# Altium schematic symbol library display-lcd.SCHLIB: 16 symbols
Pins are listed as number, name and electrical type; pins without a type are passive.

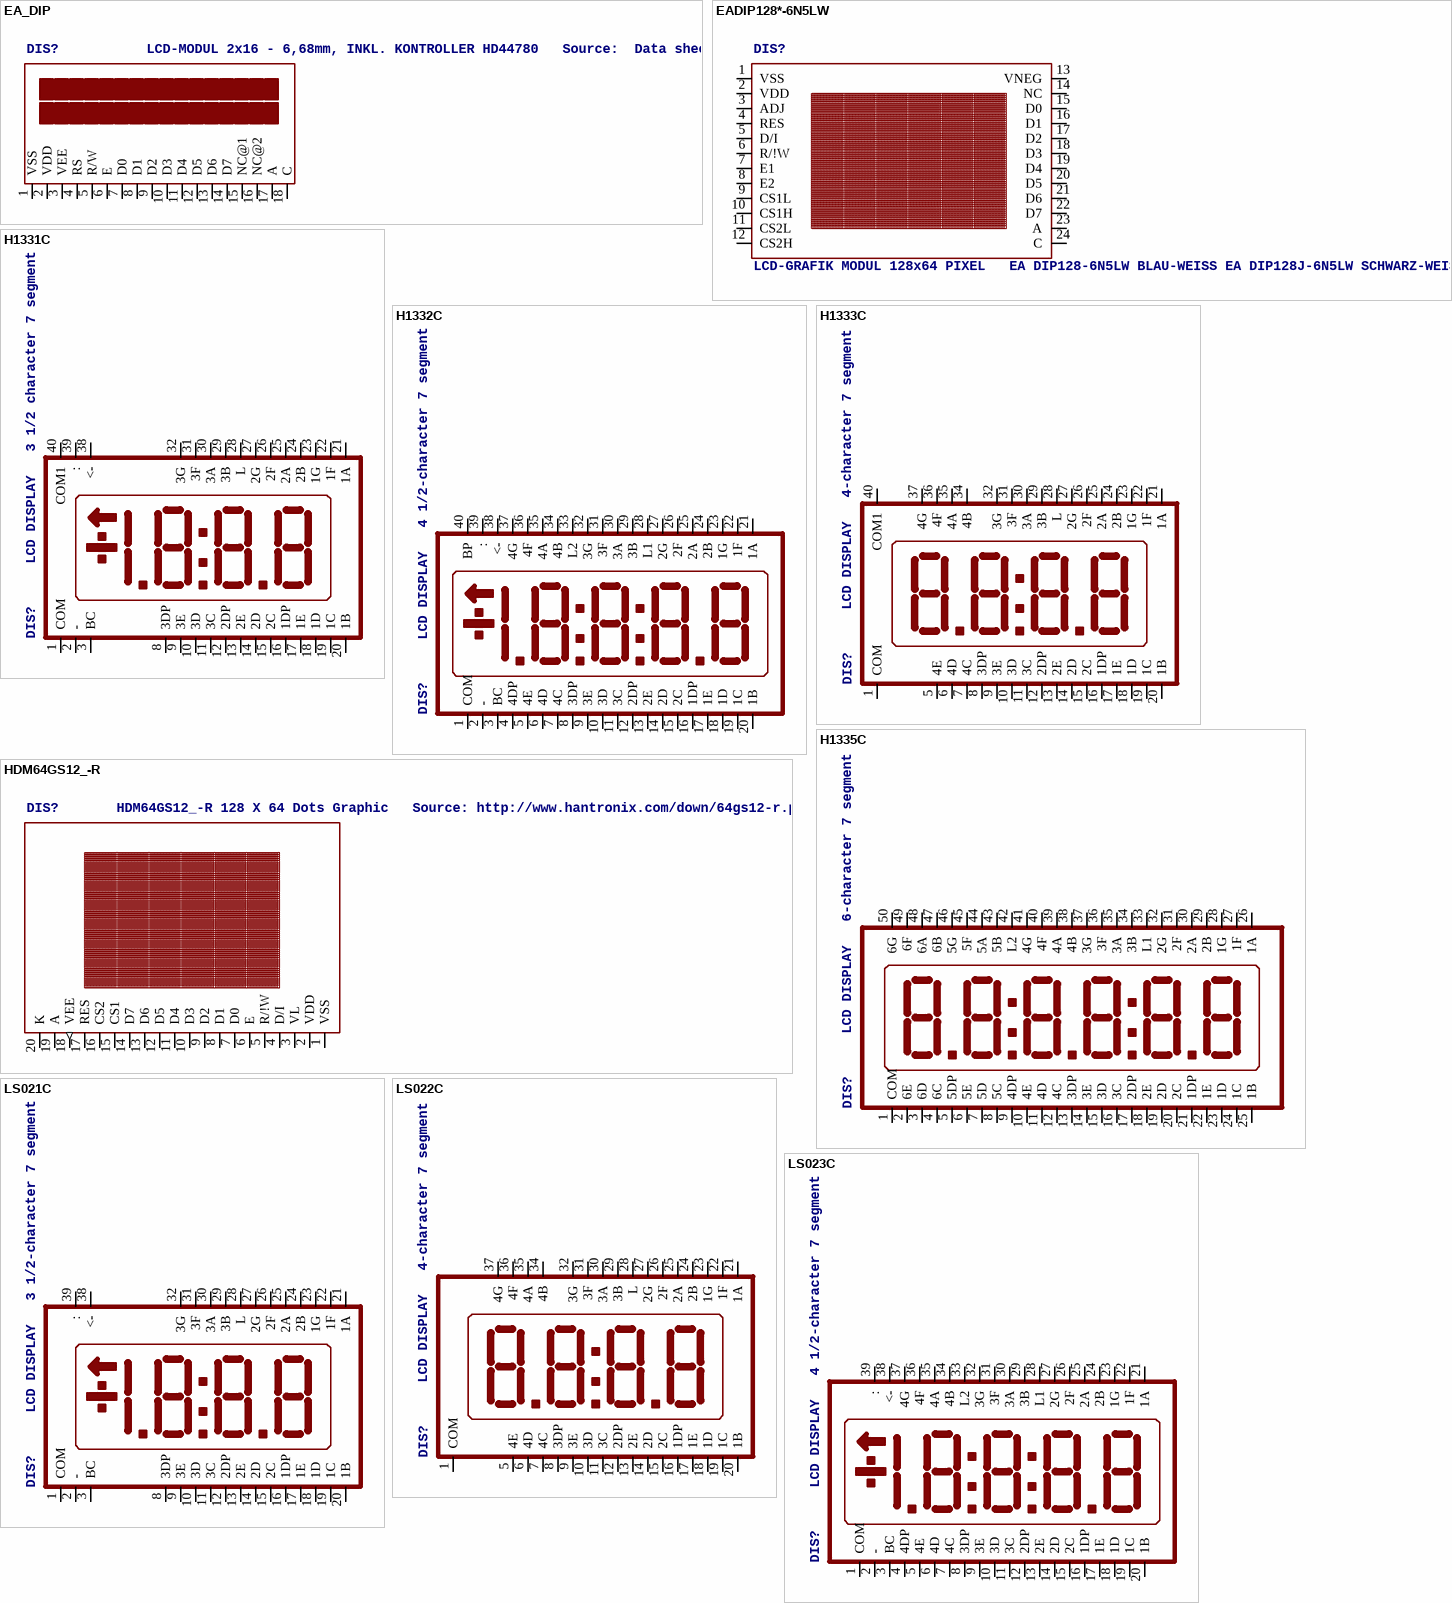
[diagram p0: symbols EA_DIP to LS023C]

## EA_DIP
designator DIS?, comment LCD-MODUL 2x16 - 6,68mm, INKL. KONTROLLER HD44780   Source:  Data sheet
footprint EA_DIP
pins: 1 VSS (power), 2 VDD (power), 3 VEE (power), 4 RS, 5 R/W, 6 E, 7 D0, 8 D1, 9 D2, 10 D3, 11 D4, 12 D5, 13 D6, 14 D7, 15 NC@1, 16 NC@2, 17 A, 18 C

## EADIP128*-6N5LW
designator DIS?, comment LCD-GRAFIK MODUL 128x64 PIXEL   EA DIP128-6N5LW BLAU-WEISS EA DIP128J-6N5LW SCHWARZ-WEISS  ELECTRONIC ASSEMBLY GMBH LOCHHAMER SCHLAG 17 D-82166 GRÄFELFING Source: www.lcd-module.de .. dip128-6.pdf
OC_FARNELL: unknown; OC_NEWARK: unknown
footprint LCD-DIP128-64
pins: 1 VSS (power), 2 VDD (power), 3 ADJ, 4 RES, 5 D/I, 6 R/!W, 7 E1, 8 E2, 9 CS1L, 10 CS1H, 11 CS2L, 12 CS2H, 13 VNEG, 14 NC, 15 D0, 16 D1, 17 D2, 18 D3, 19 D4, 20 D5, 21 D6, 22 D7, 23 A, 24 C

## H1331C
designator DIS?, comment LCD DISPLAY   3 1/2 character 7 segment
OC_FARNELL: unknown; OC_NEWARK: unknown
footprint H1331C
pins: 1 COM, 2 -, 3 BC, 8 3DP, 9 3E, 10 3D, 11 3C, 12 2DP, 13 2E, 14 2D, 15 2C, 16 1DP, 17 1E, 18 1D, 19 1C, 20 1B, 21 1A, 22 1F, 23 1G, 24 2B, 25 2A, 26 2F, 27 2G, 28 L, 29 3B, 30 3A, 31 3F, 32 3G, 38 <-, 39 :, 40 COM1

## H1332C
designator DIS?, comment LCD DISPLAY   4 1/2-character 7 segment
OC_FARNELL: unknown; OC_NEWARK: unknown
footprint H1332C
pins: 1 COM, 2 -, 3 BC, 4 4DP, 5 4E, 6 4D, 7 4C, 8 3DP, 9 3E, 10 3D, 11 3C, 12 2DP, 13 2E, 14 2D, 15 2C, 16 1DP, 17 1E, 18 1D, 19 1C, 20 1B, 21 1A, 22 1F, 23 1G, 24 2B, 25 2A, 26 2F, 27 2G, 28 L1, 29 3B, 30 3A, 31 3F, 32 3G, 33 L2, 34 4B, 35 4A, 36 4F, 37 4G, 38 <-, 39 :, 40 BP

## H1333C
designator DIS?, comment LCD DISPLAY   4-character 7 segment
OC_FARNELL: unknown; OC_NEWARK: unknown
footprint H1333C
pins: 1 COM, 5 4E, 6 4D, 7 4C, 8 3DP, 9 3E, 10 3D, 11 3C, 12 2DP, 13 2E, 14 2D, 15 2C, 16 1DP, 17 1E, 18 1D, 19 1C, 20 1B, 21 1A, 22 1F, 23 1G, 24 2B, 25 2A, 26 2F, 27 2G, 28 L, 29 3B, 30 3A, 31 3F, 32 3G, 34 4B, 35 4A, 36 4F, 37 4G, 40 COM1

## H1335C
designator DIS?, comment LCD DISPLAY   6-character 7 segment
OC_FARNELL: unknown; OC_NEWARK: unknown
footprint H1335C
pins: 1 COM, 2 6E, 3 6D, 4 6C, 5 5DP, 6 5E, 7 5D, 8 5C, 9 4DP, 10 4E, 11 4D, 12 4C, 13 3DP, 14 3E, 15 3D, 16 3C, 17 2DP, 18 2E, 19 2D, 20 2C, 21 1DP, 22 1E, 23 1D, 24 1C, 25 1B, 26 1A, 27 1F, 28 1G, 29 2B, 30 2A, 31 2F, 32 2G, 33 L1, 34 3B, 35 3A, 36 3F, 37 3G, 38 4B, 39 4A, 40 4F, 41 4G, 42 L2, 43 5B, 44 5A, 45 5F, 46 5G, 47 6B, 48 6A, 49 6F, 50 6G

## HDM64GS12_-R
designator DIS?, comment HDM64GS12_-R 128 X 64 Dots Graphic   Source: http://www.hantronix.com/down/64gs12-r.pdf
OC_FARNELL: unknown; OC_NEWARK: unknown
footprint HDM64GS12_-R
pins: 1 VSS (power), 2 VDD (power), 3 VL, 4 D/I, 5 R/!W, 6 E, 7 D0, 8 D1, 9 D2, 10 D3, 11 D4, 12 D5, 13 D6, 14 D7, 15 CS1, 16 CS2, 17 RES, 18 VEE (out), 19 A, 20 K

## LS021C
designator DIS?, comment LCD DISPLAY   3 1/2-character 7 segment
OC_FARNELL: unknown; OC_NEWARK: unknown
footprint LS021C
pins: 1 COM, 2 -, 3 BC, 8 3DP, 9 3E, 10 3D, 11 3C, 12 2DP, 13 2E, 14 2D, 15 2C, 16 1DP, 17 1E, 18 1D, 19 1C, 20 1B, 21 1A, 22 1F, 23 1G, 24 2B, 25 2A, 26 2F, 27 2G, 28 L, 29 3B, 30 3A, 31 3F, 32 3G, 38 <-, 39 :

## LS022C
designator DIS?, comment LCD DISPLAY   4-character 7 segment
OC_FARNELL: unknown; OC_NEWARK: unknown
footprint LS022C
pins: 1 COM, 5 4E, 6 4D, 7 4C, 8 3DP, 9 3E, 10 3D, 11 3C, 12 2DP, 13 2E, 14 2D, 15 2C, 16 1DP, 17 1E, 18 1D, 19 1C, 20 1B, 21 1A, 22 1F, 23 1G, 24 2B, 25 2A, 26 2F, 27 2G, 28 L, 29 3B, 30 3A, 31 3F, 32 3G, 34 4B, 35 4A, 36 4F, 37 4G

## LS023C
designator DIS?, comment LCD DISPLAY   4 1/2-character 7 segment
OC_FARNELL: unknown; OC_NEWARK: unknown
footprint LS023C
pins: 1 COM, 2 -, 3 BC, 4 4DP, 5 4E, 6 4D, 7 4C, 8 3DP, 9 3E, 10 3D, 11 3C, 12 2DP, 13 2E, 14 2D, 15 2C, 16 1DP, 17 1E, 18 1D, 19 1C, 20 1B, 21 1A, 22 1F, 23 1G, 24 2B, 25 2A, 26 2F, 27 2G, 28 L1, 29 3B, 30 3A, 31 3F, 32 3G, 33 L2, 34 4B, 35 4A, 36 4F, 37 4G, 38 <-, 39 :

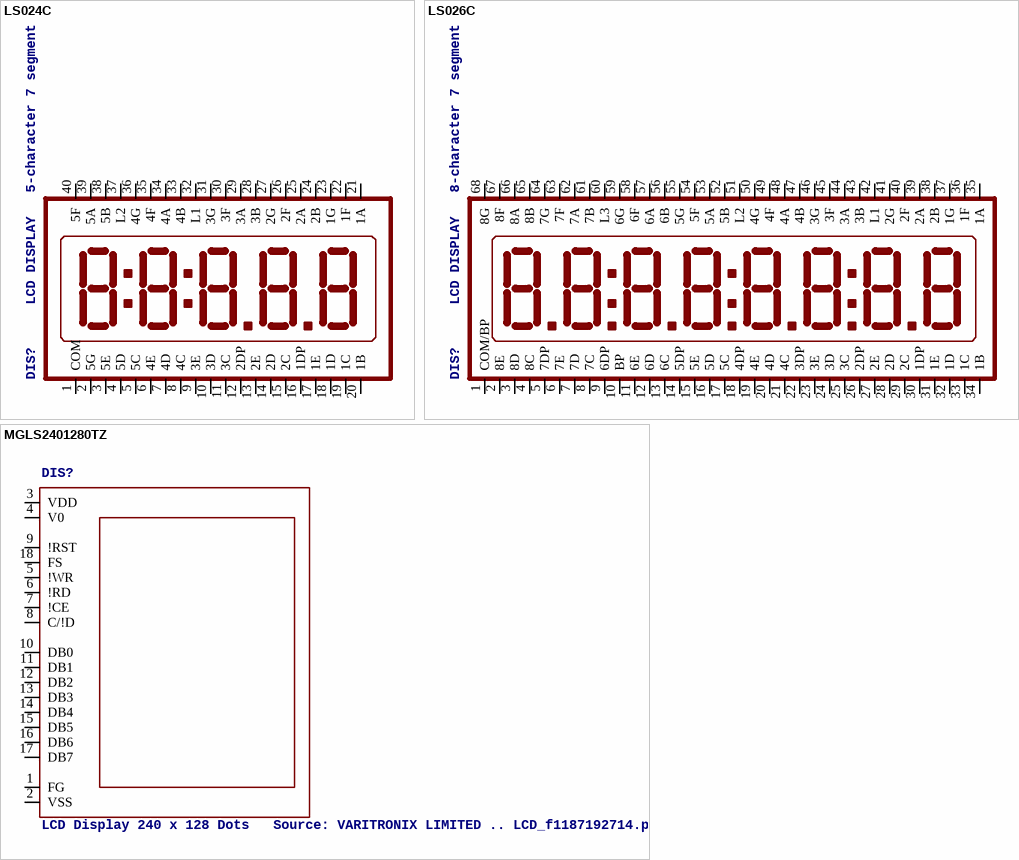
[diagram p1: symbols LS024C to MGLS2401280TZ]

## LS024C
designator DIS?, comment LCD DISPLAY   5-character 7 segment
OC_FARNELL: unknown; OC_NEWARK: unknown
footprint LS024C
pins: 1 COM, 2 5G, 3 5E, 4 5D, 5 5C, 6 4E, 7 4D, 8 4C, 9 3E, 10 3D, 11 3C, 12 2DP, 13 2E, 14 2D, 15 2C, 16 1DP, 17 1E, 18 1D, 19 1C, 20 1B, 21 1A, 22 1F, 23 1G, 24 2B, 25 2A, 26 2F, 27 2G, 28 3B, 29 3A, 30 3F, 31 3G, 32 L1, 33 4B, 34 4A, 35 4F, 36 4G, 37 L2, 38 5B, 39 5A, 40 5F

## LS026C
designator DIS?, comment LCD DISPLAY   8-character 7 segment
OC_FARNELL: unknown; OC_NEWARK: unknown
footprint LS026C
pins: 1 COM/BP, 2 8E, 3 8D, 4 8C, 5 7DP, 6 7E, 7 7D, 8 7C, 9 6DP, 10 BP, 11 6E, 12 6D, 13 6C, 14 5DP, 15 5E, 16 5D, 17 5C, 18 4DP, 19 4E, 20 4D, 21 4C, 22 3DP, 23 3E, 24 3D, 25 3C, 26 2DP, 27 2E, 28 2D, 29 2C, 30 1DP, 31 1E, 32 1D, 33 1C, 34 1B, 35 1A, 36 1F, 37 1G, 38 2B, 39 2A, 40 2F, 41 2G, 42 L1, 43 3B, 44 3A, 45 3F, 46 3G, 47 4B, 48 4A, 49 4F, 50 4G, 51 L2, 52 5B, 53 5A, 54 5F, 55 5G, 56 6B, 57 6A, 58 6F, 59 6G, 60 L3, 61 7B, 62 7A, 63 7F, 64 7G, 65 8B, 66 8A, 67 8F, 68 8G

## MGLS2401280TZ
designator DIS?, comment LCD Display 240 x 128 Dots   Source: VARITRONIX LIMITED .. LCD_f1187192714.pdf
OC_FARNELL: 1183196; OC_NEWARK: unknown
footprint MGLS2401280TZ
pins: 1 FG, 2 VSS, 3 VDD, 4 V0, 5 !WR, 6 !RD, 7 !CE, 8 C/!D, 9 !RST, 10 DB0, 11 DB1, 12 DB2, 13 DB3, 14 DB4, 15 DB5, 16 DB6, 17 DB7, 18 FS

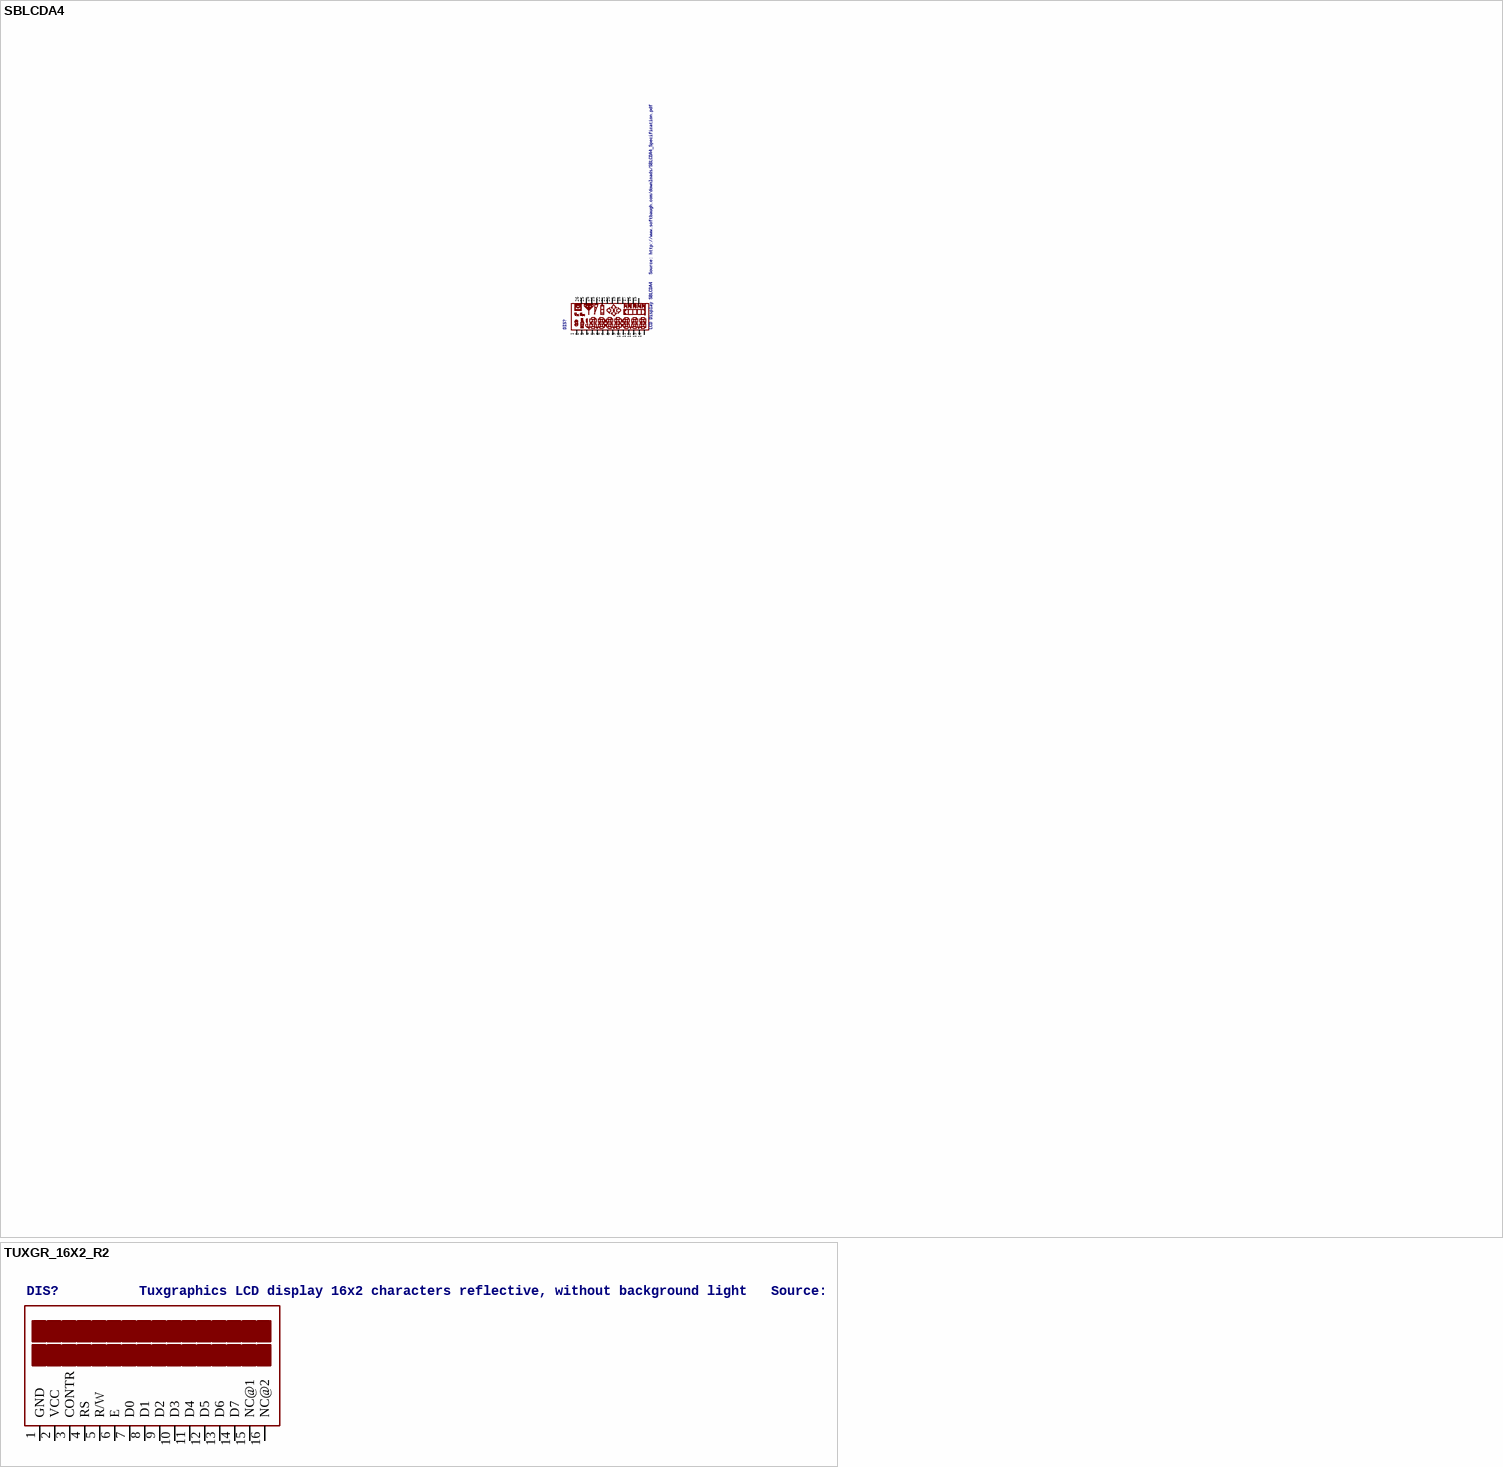
[diagram p2: symbols SBLCDA4 to TUXGR_16X2_R2]

## SBLCDA4
designator DIS?, comment LCD Display SBLCDA4   Source: http://www.softbaugh.com/downloads/SBLCDA4_Specification.pdf
OC_FARNELL: unknown; OC_NEWARK: unknown
footprint SBLCDA4
pins: 1, 2, 3, 4, 5, 6, 7, 8, 9, 10, 11, 12, 13, 14, 15, 16, 17, 18, 19, 20, 21, 22, 23, 24, 25, 26

## TUXGR_16X2_R2
designator DIS?, comment Tuxgraphics LCD display 16x2 characters reflective, without background light   Source: tuxgr_12x2_r2.pdf
OC_FARNELL: unknown; OC_NEWARK: unknown
footprint TUXGR_16X2_R2
pins: 1 GND (power), 2 VCC (power), 3 CONTR, 4 RS, 5 R/W, 6 E, 7 D0, 8 D1, 9 D2, 10 D3, 11 D4, 12 D5, 13 D6, 14 D7, 15 NC@1, 16 NC@2

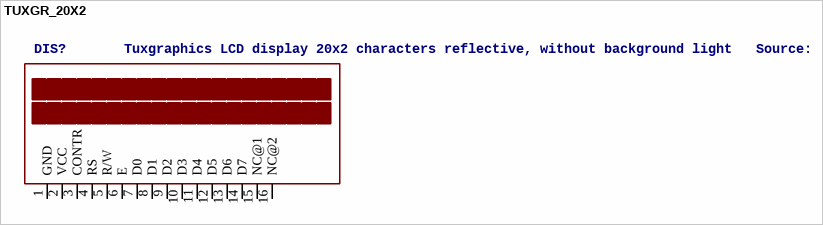
[diagram p3: symbol TUXGR_20X2]

## TUXGR_20X2
designator DIS?, comment Tuxgraphics LCD display 20x2 characters reflective, without background light   Source: tuxgr_20x2.pdf
OC_FARNELL: unknown; OC_NEWARK: unknown
footprint TUXGR_20X2
pins: 1 GND (power), 2 VCC (power), 3 CONTR, 4 RS, 5 R/W, 6 E, 7 D0, 8 D1, 9 D2, 10 D3, 11 D4, 12 D5, 13 D6, 14 D7, 15 NC@1, 16 NC@2